# Altium integrated library AUVic_Integrated_Library_Transistors.IntLib: 26 symbols (part 1 of 2)
Pins are listed as number, name and electrical type; pins without a type are passive.

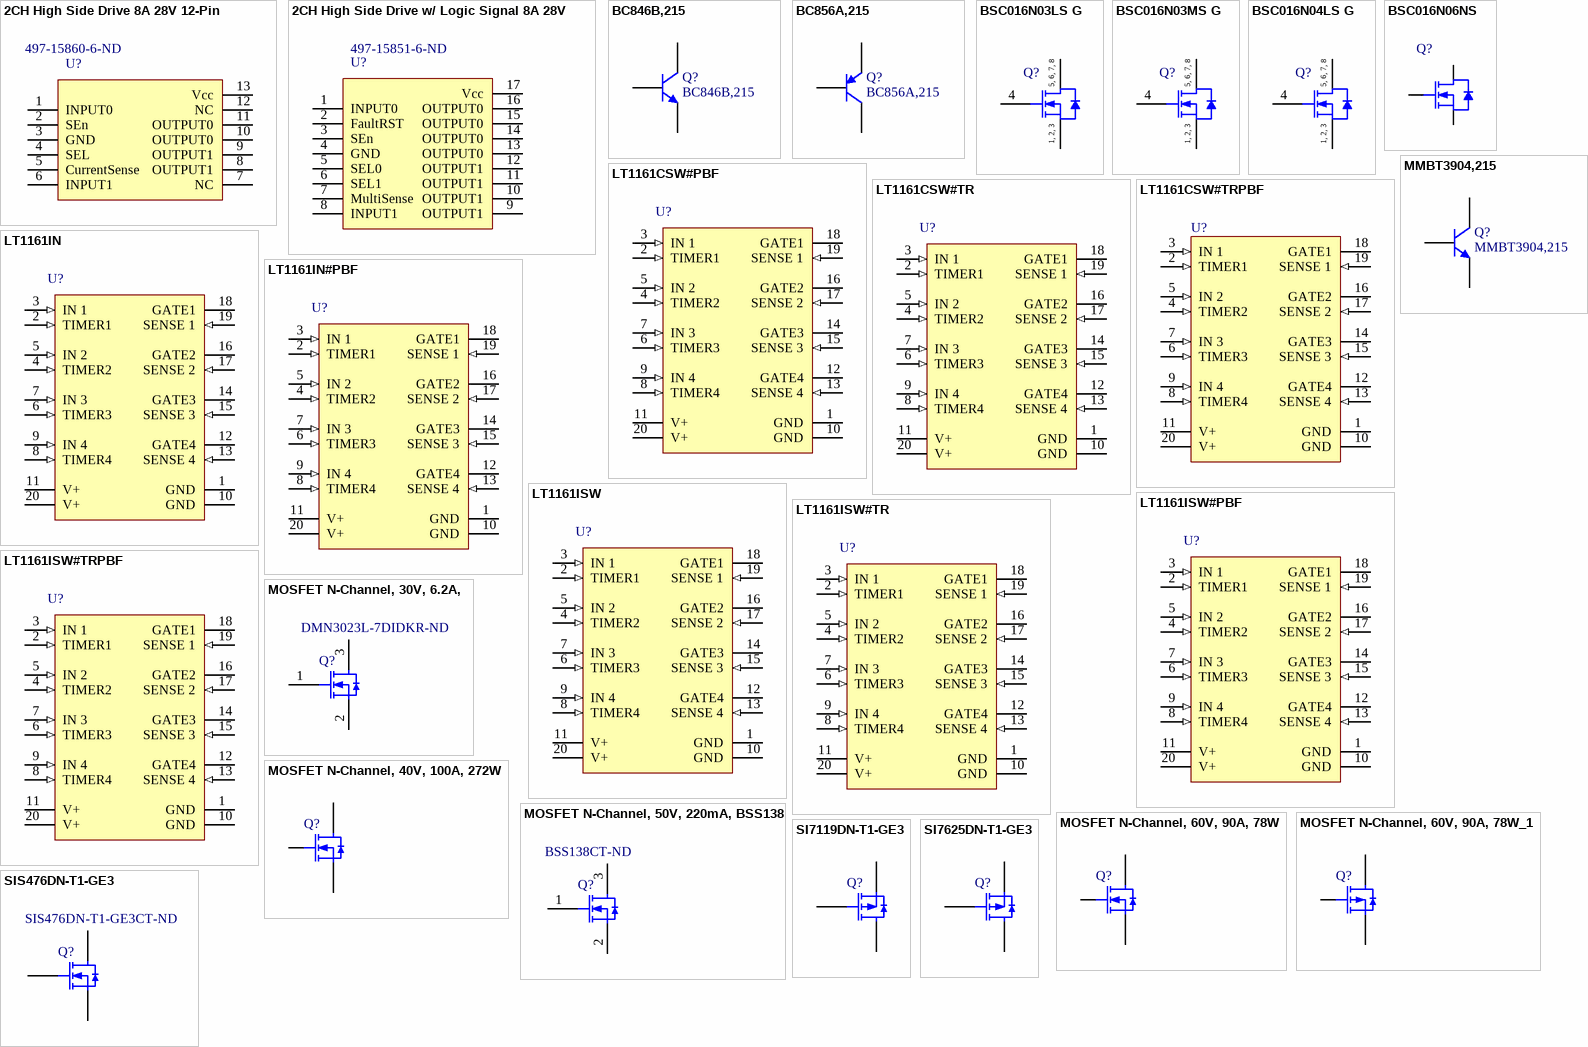
[diagram p0: symbols 2CH High Side Drive 8A 28V 12-Pin to SIS476DN-T1-GE3]

## 2CH High Side Drive 8A 28V 12-Pin
designator U?  Supplier Part Number 1: 497-15860-6-ND
2 Channel High Side Drive MOSFET controlable by logic signal 12-Pin; Supplier 1: Digi-Key; ComponentLink1Description: Digi-Key; ComponentLink1URL: https://www.digikey.ca/product-detail/en/stmicroelectronics/VND7140AJ12TR/497-15860-1-ND/5322005; Created By: Poorna Chander Kalidas; Date Created: 2018-06-13
footprint PowerSSO-12 (SOP, 12-Leads, Body 4.90x3.90mm, Pitch 0.80mm, Thermal Pad 3.50x2.80mm, IPC Low Density)
pins: 1 INPUT0, 2 SEn, 3 GND, 4 SEL, 5 CurrentSense, 6 INPUT1, 7 NC, 8 OUTPUT1, 9 OUTPUT1, 10 OUTPUT0, 11 OUTPUT0, 12 NC, 13 Vcc

## 2CH High Side Drive w/ Logic Signal 8A 28V
designator U?  Supplier Part Number 1: 497-15851-6-ND
2 Channel High Side Drive MOSFET controlable by logic signal; Supplier 1: Digi-Key
footprint SSOP50P600X170_HS-17N (SSOP, 16-Leads, Body 4.90x3.90mm, Pitch 0.50mm, Thermal Pad 3.50x2.80mm, IPC Medium Density)
pins: 1 INPUT0, 2 FaultRST, 3 SEn, 4 GND, 5 SEL0, 6 SEL1, 7 MultiSense, 8 INPUT1, 9 OUTPUT1, 10 OUTPUT1, 11 OUTPUT1, 12 OUTPUT1, 13 OUTPUT0, 14 OUTPUT0, 15 OUTPUT0, 16 OUTPUT0, 17 Vcc

## BC846B,215
designator Q?
NPN 65V 100mA 250mW; Published: 8-Jun-2000; LatestRevisionDate: 09-Sep-2016; DatasheetVersion: 1997; Publisher: Andy Bates; Supplier 1: Digi-Key; Supplier Part Number 1: 568-1632-1-ND
footprint SOT-23
pins: 1 B, 2 E, 3 C

## BC856A,215
designator Q?
PNP 65V 100mA 250mW; Published: 8-Jun-2000; LatestRevisionDate: 15-Jan-2003; Supplier 1: Digi-Key; Supplier Part Number 1: 568-4869-1-ND
footprint SOT-23
pins: 1 B, 2 E, 3 C

## BSC016N03LS G
designator Q?
N-Channel OptiMOS 3 Power-MOSFET, 30 V VDS, 100 A ID, -55 to 150 degC, PG-TDSON-8-1, Reel, Green; Manufacturer: Infineon; PartNumber: BSC016N03LS G; Green: TRUE; ID (max): 100 A; IDpuls (max): 400 A; Polarity: N; Ptot (max): 125 W; QG: 56 nC; RDS (on) (max): 1.6 mOhm; RDS (on) (max) (@4.5V): 2.3 mOhm; Rth: 1 K/W; RthJA (max): 50 K/W; VDS (max): 30 V; VGS(th) (max): 2.2 V; VGS(th) (min): 1 V; DatasheetVersion: Rev. 1.28; PackageReference: PG-TDSON-8-1; PackageDescription: 8-Pin Plastic (Green) Thin Dual Small Outline Non-Leaded Package, 5.15 x 5.9 mm Body, 1.27 mm Pitch; Supplier 1: Digi-Key; Supplier Part Number 1: BSC016N03LS GCT-ND; Halogen-free: TRUE; Packing: Reel; RthJC (max): 1 K/W; Mounting Technology: Surface Mount; ComponentLink1Description: Manufacturer URL; ComponentLink1URL: http://www.infineon.com/; ComponentLink2Description: Datasheet; ComponentLink2URL: http://www.infineon.com/dgdl/BSC016N03LS_rev1.28.pdf?folderId=db3a304412b407950112b408e8c90004&fileId=db3a304412b407950112b42761a13c1b; ComponentLink3Description: Package Specification; ComponentLink3URL: http://www.infineon.com/cms/packages/SMD_-_Surface_Mounted_Devices/P-PG-TDSON/P-PG-TDSON-08-01x_2x_3.html?__locale=en
footprint INF-PG-TDSON-8-1_V (TDSON, 8-Leads, Body 6.15x5.15mm, Pitch 1.27mm)
pins: 1 SOURCE, 2 SOURCE, 3 SOURCE, 4 GATE, 5 DRAIN, 6 DRAIN, 7 DRAIN, 8 DRAIN
text: 5, 6, 7, 8; 1, 2, 3

## BSC016N03MS G
designator Q?
N-Channel OptiMOS 3 M-Series Power-MOSFET, 30 V VDS, 100 A ID, -55 to 150 degC, PG-TDSON-8-1, Reel, Green; Manufacturer: Infineon; PartNumber: BSC016N03MS G; Green: TRUE; ID (max): 100 A; IDpuls (max): 400 A; Polarity: N; Ptot (max): 125 W; QG: 63 nC; RDS (on) (max): 1.6 mOhm; RDS (on) (max) (@4.5V): 2 mOhm; Rth: 1 K/W; RthJA (max): 50 K/W; VDS (max): 30 V; VGS(th) (max): 2 V; VGS(th) (min): 1 V; DatasheetVersion: Rev. 1.17; PackageReference: PG-TDSON-8-1; PackageDescription: 8-Pin Plastic (Green) Thin Dual Small Outline Non-Leaded Package, 5.15 x 5.9 mm Body, 1.27 mm Pitch; Supplier 1: Digi-Key; Supplier Part Number 1: BSC016N03MSGINCT-ND; Halogen-free: TRUE; Packing: Reel; RthJC (max): 1 K/W; Mounting Technology: Surface Mount; ComponentLink1Description: Manufacturer URL; ComponentLink1URL: http://www.infineon.com/; ComponentLink2Description: Datasheet; ComponentLink2URL: http://www.infineon.com/dgdl/BSC016N03MSG_rev1.17.pdf?folderId=db3a304313d846880113d91d60c500c4&fileId=db3a304313d846880113de4a19bb0334; ComponentLink3Description: Package Specification; ComponentLink3URL: http://www.infineon.com/cms/packages/SMD_-_Surface_Mounted_Devices/P-PG-TDSON/P-PG-TDSON-08-01x_2x_3.html?__locale=en
footprint INF-PG-TDSON-8-1_V (TDSON, 8-Leads, Body 6.15x5.15mm, Pitch 1.27mm)
pins: 1 SOURCE, 2 SOURCE, 3 SOURCE, 4 GATE, 5 DRAIN, 6 DRAIN, 7 DRAIN, 8 DRAIN
text: 5, 6, 7, 8; 1, 2, 3

## BSC016N04LS G
designator Q?
N-Channel OptiMOS 3 Power-Transistor, 40 V VDS, 100 A ID, -55 to 150 degC, PG-TDSON-8-1, Reel, Green; Manufacturer: Infineon; PartNumber: BSC016N04LS G; Green: TRUE; ID (max): 100 A; IDpuls (max): 400 A; Polarity: N; Ptot (max): 139 W; QG: 113 nC; RDS (on) (max): 1.6 mOhm; RDS (on) (max) (@4.5V): 2.3 mOhm; Rth: 0.9 K/W; RthJA (max): 50 K/W; VDS (max): 40 V; VGS(th) (max): 2 V; VGS(th) (min): 1.2 V; DatasheetVersion: Rev. 2.0; PackageReference: PG-TDSON-8-1; PackageDescription: 8-Pin Plastic (Green) Thin Dual Small Outline Non-Leaded Package, 5.15 x 5.9 mm Body, 1.27 mm Pitch; Supplier 1: Digi-Key; Supplier Part Number 1: BSC016N04LS GCT-ND; Halogen-free: TRUE; Packing: Reel; RthJC (max): 0.9 K/W; Mounting Technology: Surface Mount; ComponentLink1Description: Manufacturer URL; ComponentLink1URL: http://www.infineon.com/; ComponentLink2Description: Datasheet; ComponentLink2URL: http://www.infineon.com/dgdl/BSC016N04LSG_rev2.pdf?folderId=db3a304313b8b5a60113cee8763b02d7&fileId=db3a304318a6cd680118efe284830226; ComponentLink3Description: Package Specification; ComponentLink3URL: http://www.infineon.com/cms/packages/SMD_-_Surface_Mounted_Devices/P-PG-TDSON/P-PG-TDSON-08-01x_2x_3.html?__locale=en
footprint INF-PG-TDSON-8-1_V (TDSON, 8-Leads, Body 6.15x5.15mm, Pitch 1.27mm)
pins: 1 SOURCE, 2 SOURCE, 3 SOURCE, 4 GATE, 5 DRAIN, 6 DRAIN, 7 DRAIN, 8 DRAIN
text: 5, 6, 7, 8; 1, 2, 3

## BSC016N06NS
designator Q?  (value not drawn)
N-Channel, 60V, 100A, 139W; Manufacturer: Infineon Technologies; Created By: Ashwin Sira; Publisher: AUVic; Supplier 1: Digi-Key; Supplier Part Number 1: BSC016N06NSCT-ND
footprint INF-PG-TDSON-8-1_V (TDSON, 8-Leads, Body 6.15x5.15mm, Pitch 1.27mm)
pins: 1 SOURCE, 2 SOURCE, 3 SOURCE, 4 GATE, 5 DRAIN, 6 DRAIN, 7 DRAIN, 8 DRAIN

## LT1161CSW#PBF
designator U?
Quad Protected High-Side MOSFET Driver, 8 to 48 V Vin, 20-pin SOIC (SW-20), 0 to 70 degC, Pb-Free; Manufacturer: Linear Technology; PartNumber: LT1161CSW#PBF; DatasheetVersion: Rev. A; PackageVersion: Jun-10; PackageReference: SW-20; PackageDescription: 20-Pin Plastic Small Outline, Body 12.80 x 7.49 mm, Pitch 1.27 mm; Supplier 1: Digi-Key; Supplier Part Number 1: LT1161CSW#PBF-ND; Supplier 2: Farnell; Supplier Part Number 2: 1273476; Supplier 3: Newark; Supplier Part Number 3: 57M2265; RoHS: TRUE; Mounting Technology: Surface Mount; ComponentLink1Description: Manufacturer URL; ComponentLink1URL: http://www.linear.com/; ComponentLink2Description: Datasheet; ComponentLink2URL: http://cds.linear.com/docs/en/datasheet/1161fa.pdf; ComponentLink3Description: Package Specification; ComponentLink3URL: http://cds.linear.com/docs/en/packaging/SO_20_05-08-1620.pdf
footprint LT-SW-20_N (SOIC, 20-Leads, Body 12.8x7.49mm, Pitch 1.27mm, IPC Medium Density)
footprint LT-SW-20_L (SOIC, 20-Leads, Body 12.8x7.49mm, Pitch 1.27mm, IPC High Density)
footprint LT-SW-20_M (SOIC, 20-Leads, Body 12.8x7.49mm, Pitch 1.27mm, IPC Low Density)
pins: 1 GND (power) "The two ground pins are internally connected and must also be externally connected.", 2 TIMER1 (in) "A timing capacitor CT from each timer pin to ground sets the restart time following overcurrent detection. CT is rapidly discharged to less than 1V and then recharged by a 14uA nominal current source back to the timer (See Datasheet)", 3 IN 1 (in) "The input pins are active high and each pin activates a separate internal charge pump when switched ON. The input threshold is TTL/CMOS compatible but may be taken as high as 15V with or without the supply powered. Each (See Datasheet)", 4 TIMER2 (in) "A timing capacitor CT from each timer pin to ground sets the restart time following overcurrent detection. CT is rapidly discharged to less than 1V and then recharged by a 14uA nominal current source back to the timer (See Datasheet)", 5 IN 2 (in) "The input pins are active high and each pin activates a separate internal charge pump when switched ON. The input threshold is TTL/CMOS compatible but may be taken as high as 15V with or without the supply powered. Each (See Datasheet)", 6 TIMER3 (in) "A timing capacitor CT from each timer pin to ground sets the restart time following overcurrent detection. CT is rapidly discharged to less than 1V and then recharged by a 14uA nominal current source back to the timer (See Datasheet)", 7 IN 3 (in) "The input pins are active high and each pin activates a separate internal charge pump when switched ON. The input threshold is TTL/CMOS compatible but may be taken as high as 15V with or without the supply powered. Each (See Datasheet)", 8 TIMER4 (in) "A timing capacitor CT from each timer pin to ground sets the restart time following overcurrent detection. CT is rapidly discharged to less than 1V and then recharged by a 14uA nominal current source back to the timer (See Datasheet)", 9 IN 4 (in) "The input pins are active high and each pin activates a separate internal charge pump when switched ON. The input threshold is TTL/CMOS compatible but may be taken as high as 15V with or without the supply powered. Each (See Datasheet)", 10 GND (power) "The two ground pins are internally connected and must also be externally connected.", 11 V+ (power) "The two supply pins are internally connected and must also be externally connected. In addition to providing the operating current for the LT1161, the supply pins also serve as the Kelvin connection for the current sense (See Datasheet)", 12 GATE4 (hiz) "The gate pins drive the power MOSFET gates. When an input is ON, the corresponding gate pin is pumped approximately 12V above the supply. These pins have a relatively high impedance when above the rail (theequivalent of a (See Datasheet)", 13 SENSE 4 (in) "Each sense pin connects to the input of asupply-referenced comparator with a 65mV nominal offset. When a sense pin is taken more than 65mV below supply, the MOSFET gate for that channel is driven low and the corresponding (See Datasheet)", 14 GATE3 (hiz) "The gate pins drive the power MOSFET gates. When an input is ON, the corresponding gate pin is pumped approximately 12V above the supply. These pins have a relatively high impedance when above the rail (theequivalent of a (See Datasheet)", 15 SENSE 3 (in) "Each sense pin connects to the input of asupply-referenced comparator with a 65mV nominal offset. When a sense pin is taken more than 65mV below supply, the MOSFET gate for that channel is driven low and the corresponding (See Datasheet)", 16 GATE2 (hiz) "The gate pins drive the power MOSFET gates. When an input is ON, the corresponding gate pin is pumped approximately 12V above the supply. These pins have a relatively high impedance when above the rail (theequivalent of a (See Datasheet)", 17 SENSE 2 (in) "Each sense pin connects to the input of asupply-referenced comparator with a 65mV nominal offset. When a sense pin is taken more than 65mV below supply, the MOSFET gate for that channel is driven low and the corresponding (See Datasheet)", 18 GATE1 (hiz) "The gate pins drive the power MOSFET gates. When an input is ON, the corresponding gate pin is pumped approximately 12V above the supply. These pins have a relatively high impedance when above the rail (theequivalent of a (See Datasheet)", 19 SENSE 1 (in) "Each sense pin connects to the input of asupply-referenced comparator with a 65mV nominal offset. When a sense pin is taken more than 65mV below supply, the MOSFET gate for that channel is driven low and the corresponding (See Datasheet)", 20 V+ (power) "The two supply pins are internally connected and must also be externally connected. In addition to providing the operating current for the LT1161, the supply pins also serve as the Kelvin connection for the current sense (See Datasheet)"

## LT1161CSW#TR
designator U?
Quad Protected High-Side MOSFET Driver, 8 to 48 V Vin, 20-pin SOIC (SW-20), 0 to 70 degC, Tape and Reel; Manufacturer: Linear Technology; PartNumber: LT1161CSW#TR; DatasheetVersion: Rev. A; PackageVersion: Jun-10; PackageReference: SW-20; PackageDescription: 20-Pin Plastic Small Outline, Body 12.80 x 7.49 mm, Pitch 1.27 mm; Supplier 1: Digi-Key; Supplier Part Number 1: LT1161CSW#TR-ND; Packing: Tape and Reel; RoHS: FALSE; Mounting Technology: Surface Mount; ComponentLink1Description: Manufacturer URL; ComponentLink1URL: http://www.linear.com/; ComponentLink2Description: Datasheet; ComponentLink2URL: http://cds.linear.com/docs/en/datasheet/1161fa.pdf; ComponentLink3Description: Package Specification; ComponentLink3URL: http://cds.linear.com/docs/en/packaging/SO_20_05-08-1620.pdf
footprint LT-SW-20_N (SOIC, 20-Leads, Body 12.8x7.49mm, Pitch 1.27mm, IPC Medium Density)
footprint LT-SW-20_L (SOIC, 20-Leads, Body 12.8x7.49mm, Pitch 1.27mm, IPC High Density)
footprint LT-SW-20_M (SOIC, 20-Leads, Body 12.8x7.49mm, Pitch 1.27mm, IPC Low Density)
pins: 1 GND (power) "The two ground pins are internally connected and must also be externally connected.", 2 TIMER1 (in) "A timing capacitor CT from each timer pin to ground sets the restart time following overcurrent detection. CT is rapidly discharged to less than 1V and then recharged by a 14uA nominal current source back to the timer (See Datasheet)", 3 IN 1 (in) "The input pins are active high and each pin activates a separate internal charge pump when switched ON. The input threshold is TTL/CMOS compatible but may be taken as high as 15V with or without the supply powered. Each (See Datasheet)", 4 TIMER2 (in) "A timing capacitor CT from each timer pin to ground sets the restart time following overcurrent detection. CT is rapidly discharged to less than 1V and then recharged by a 14uA nominal current source back to the timer (See Datasheet)", 5 IN 2 (in) "The input pins are active high and each pin activates a separate internal charge pump when switched ON. The input threshold is TTL/CMOS compatible but may be taken as high as 15V with or without the supply powered. Each (See Datasheet)", 6 TIMER3 (in) "A timing capacitor CT from each timer pin to ground sets the restart time following overcurrent detection. CT is rapidly discharged to less than 1V and then recharged by a 14uA nominal current source back to the timer (See Datasheet)", 7 IN 3 (in) "The input pins are active high and each pin activates a separate internal charge pump when switched ON. The input threshold is TTL/CMOS compatible but may be taken as high as 15V with or without the supply powered. Each (See Datasheet)", 8 TIMER4 (in) "A timing capacitor CT from each timer pin to ground sets the restart time following overcurrent detection. CT is rapidly discharged to less than 1V and then recharged by a 14uA nominal current source back to the timer (See Datasheet)", 9 IN 4 (in) "The input pins are active high and each pin activates a separate internal charge pump when switched ON. The input threshold is TTL/CMOS compatible but may be taken as high as 15V with or without the supply powered. Each (See Datasheet)", 10 GND (power) "The two ground pins are internally connected and must also be externally connected.", 11 V+ (power) "The two supply pins are internally connected and must also be externally connected. In addition to providing the operating current for the LT1161, the supply pins also serve as the Kelvin connection for the current sense (See Datasheet)", 12 GATE4 (hiz) "The gate pins drive the power MOSFET gates. When an input is ON, the corresponding gate pin is pumped approximately 12V above the supply. These pins have a relatively high impedance when above the rail (theequivalent of a (See Datasheet)", 13 SENSE 4 (in) "Each sense pin connects to the input of asupply-referenced comparator with a 65mV nominal offset. When a sense pin is taken more than 65mV below supply, the MOSFET gate for that channel is driven low and the corresponding (See Datasheet)", 14 GATE3 (hiz) "The gate pins drive the power MOSFET gates. When an input is ON, the corresponding gate pin is pumped approximately 12V above the supply. These pins have a relatively high impedance when above the rail (theequivalent of a (See Datasheet)", 15 SENSE 3 (in) "Each sense pin connects to the input of asupply-referenced comparator with a 65mV nominal offset. When a sense pin is taken more than 65mV below supply, the MOSFET gate for that channel is driven low and the corresponding (See Datasheet)", 16 GATE2 (hiz) "The gate pins drive the power MOSFET gates. When an input is ON, the corresponding gate pin is pumped approximately 12V above the supply. These pins have a relatively high impedance when above the rail (theequivalent of a (See Datasheet)", 17 SENSE 2 (in) "Each sense pin connects to the input of asupply-referenced comparator with a 65mV nominal offset. When a sense pin is taken more than 65mV below supply, the MOSFET gate for that channel is driven low and the corresponding (See Datasheet)", 18 GATE1 (hiz) "The gate pins drive the power MOSFET gates. When an input is ON, the corresponding gate pin is pumped approximately 12V above the supply. These pins have a relatively high impedance when above the rail (theequivalent of a (See Datasheet)", 19 SENSE 1 (in) "Each sense pin connects to the input of asupply-referenced comparator with a 65mV nominal offset. When a sense pin is taken more than 65mV below supply, the MOSFET gate for that channel is driven low and the corresponding (See Datasheet)", 20 V+ (power) "The two supply pins are internally connected and must also be externally connected. In addition to providing the operating current for the LT1161, the supply pins also serve as the Kelvin connection for the current sense (See Datasheet)"

## LT1161CSW#TRPBF
designator U?
Quad Protected High-Side MOSFET Driver, 8 to 48 V Vin, 20-pin SOIC (SW-20), 0 to 70 degC, Pb-Free, Tape and Reel; Manufacturer: Linear Technology; PartNumber: LT1161CSW#TRPBF; DatasheetVersion: Rev. A; PackageVersion: Jun-10; PackageReference: SW-20; PackageDescription: 20-Pin Plastic Small Outline, Body 12.80 x 7.49 mm, Pitch 1.27 mm; Supplier 1: Digi-Key; Supplier Part Number 1: LT1161CSW#TRPBFTR-ND; Supplier 2: Digi-Key; Supplier Part Number 2: LT1161CSW#TRPBFCT-ND; Supplier 3: Digi-Key; Supplier Part Number 3: LT1161CSW#TRPBFDKR-ND; Packing: Tape and Reel; RoHS: TRUE; Mounting Technology: Surface Mount; ComponentLink1Description: Manufacturer URL; ComponentLink1URL: http://www.linear.com/; ComponentLink2Description: Datasheet; ComponentLink2URL: http://cds.linear.com/docs/en/datasheet/1161fa.pdf; ComponentLink3Description: Package Specification; ComponentLink3URL: http://cds.linear.com/docs/en/packaging/SO_20_05-08-1620.pdf
footprint LT-SW-20_N (SOIC, 20-Leads, Body 12.8x7.49mm, Pitch 1.27mm, IPC Medium Density)
footprint LT-SW-20_L (SOIC, 20-Leads, Body 12.8x7.49mm, Pitch 1.27mm, IPC High Density)
footprint LT-SW-20_M (SOIC, 20-Leads, Body 12.8x7.49mm, Pitch 1.27mm, IPC Low Density)
pins: 1 GND (power) "The two ground pins are internally connected and must also be externally connected.", 2 TIMER1 (in) "A timing capacitor CT from each timer pin to ground sets the restart time following overcurrent detection. CT is rapidly discharged to less than 1V and then recharged by a 14uA nominal current source back to the timer (See Datasheet)", 3 IN 1 (in) "The input pins are active high and each pin activates a separate internal charge pump when switched ON. The input threshold is TTL/CMOS compatible but may be taken as high as 15V with or without the supply powered. Each (See Datasheet)", 4 TIMER2 (in) "A timing capacitor CT from each timer pin to ground sets the restart time following overcurrent detection. CT is rapidly discharged to less than 1V and then recharged by a 14uA nominal current source back to the timer (See Datasheet)", 5 IN 2 (in) "The input pins are active high and each pin activates a separate internal charge pump when switched ON. The input threshold is TTL/CMOS compatible but may be taken as high as 15V with or without the supply powered. Each (See Datasheet)", 6 TIMER3 (in) "A timing capacitor CT from each timer pin to ground sets the restart time following overcurrent detection. CT is rapidly discharged to less than 1V and then recharged by a 14uA nominal current source back to the timer (See Datasheet)", 7 IN 3 (in) "The input pins are active high and each pin activates a separate internal charge pump when switched ON. The input threshold is TTL/CMOS compatible but may be taken as high as 15V with or without the supply powered. Each (See Datasheet)", 8 TIMER4 (in) "A timing capacitor CT from each timer pin to ground sets the restart time following overcurrent detection. CT is rapidly discharged to less than 1V and then recharged by a 14uA nominal current source back to the timer (See Datasheet)", 9 IN 4 (in) "The input pins are active high and each pin activates a separate internal charge pump when switched ON. The input threshold is TTL/CMOS compatible but may be taken as high as 15V with or without the supply powered. Each (See Datasheet)", 10 GND (power) "The two ground pins are internally connected and must also be externally connected.", 11 V+ (power) "The two supply pins are internally connected and must also be externally connected. In addition to providing the operating current for the LT1161, the supply pins also serve as the Kelvin connection for the current sense (See Datasheet)", 12 GATE4 (hiz) "The gate pins drive the power MOSFET gates. When an input is ON, the corresponding gate pin is pumped approximately 12V above the supply. These pins have a relatively high impedance when above the rail (theequivalent of a (See Datasheet)", 13 SENSE 4 (in) "Each sense pin connects to the input of asupply-referenced comparator with a 65mV nominal offset. When a sense pin is taken more than 65mV below supply, the MOSFET gate for that channel is driven low and the corresponding (See Datasheet)", 14 GATE3 (hiz) "The gate pins drive the power MOSFET gates. When an input is ON, the corresponding gate pin is pumped approximately 12V above the supply. These pins have a relatively high impedance when above the rail (theequivalent of a (See Datasheet)", 15 SENSE 3 (in) "Each sense pin connects to the input of asupply-referenced comparator with a 65mV nominal offset. When a sense pin is taken more than 65mV below supply, the MOSFET gate for that channel is driven low and the corresponding (See Datasheet)", 16 GATE2 (hiz) "The gate pins drive the power MOSFET gates. When an input is ON, the corresponding gate pin is pumped approximately 12V above the supply. These pins have a relatively high impedance when above the rail (theequivalent of a (See Datasheet)", 17 SENSE 2 (in) "Each sense pin connects to the input of asupply-referenced comparator with a 65mV nominal offset. When a sense pin is taken more than 65mV below supply, the MOSFET gate for that channel is driven low and the corresponding (See Datasheet)", 18 GATE1 (hiz) "The gate pins drive the power MOSFET gates. When an input is ON, the corresponding gate pin is pumped approximately 12V above the supply. These pins have a relatively high impedance when above the rail (theequivalent of a (See Datasheet)", 19 SENSE 1 (in) "Each sense pin connects to the input of asupply-referenced comparator with a 65mV nominal offset. When a sense pin is taken more than 65mV below supply, the MOSFET gate for that channel is driven low and the corresponding (See Datasheet)", 20 V+ (power) "The two supply pins are internally connected and must also be externally connected. In addition to providing the operating current for the LT1161, the supply pins also serve as the Kelvin connection for the current sense (See Datasheet)"
1 alternate drawing of the same symbol

## LT1161IN
designator U?
Quad Protected High-Side MOSFET Driver, 8 to 48 V Vin, 20-pin DIP (N-20), -40 to 85 degC; Manufacturer: Linear Technology; PartNumber: LT1161IN; DatasheetVersion: Rev. A; PackageVersion: Rev. I, 07/2011; PackageReference: N-20; PackageDescription: 20-Pin PDIP, Body 26.924 x 6.477 mm, Pitch 2.54 mm; Supplier 1: Digi-Key; Supplier Part Number 1: LT1161IN-ND; Supplier 2: Newark; Supplier Part Number 2: 57M2268; RoHS: FALSE; Mounting Technology: Through Hole; ComponentLink1Description: Manufacturer URL; ComponentLink1URL: http://www.linear.com/; ComponentLink2Description: Datasheet; ComponentLink2URL: http://cds.linear.com/docs/en/datasheet/1161fa.pdf; ComponentLink3Description: Package Specification; ComponentLink3URL: http://cds.linear.com/docs/en/packaging/05081510_I_N20.pdf
footprint LT-N-20 (DIP, 20-Leads, Body 26.924x6.477mm, Pitch 2.54mm)
pins: 1 GND (power) "The two ground pins are internally connected and must also be externally connected.", 2 TIMER1 (in) "A timing capacitor CT from each timer pin to ground sets the restart time following overcurrent detection. CT is rapidly discharged to less than 1V and then recharged by a 14uA nominal current source back to the timer (See Datasheet)", 3 IN 1 (in) "The input pins are active high and each pin activates a separate internal charge pump when switched ON. The input threshold is TTL/CMOS compatible but may be taken as high as 15V with or without the supply powered. Each (See Datasheet)", 4 TIMER2 (in) "A timing capacitor CT from each timer pin to ground sets the restart time following overcurrent detection. CT is rapidly discharged to less than 1V and then recharged by a 14uA nominal current source back to the timer (See Datasheet)", 5 IN 2 (in) "The input pins are active high and each pin activates a separate internal charge pump when switched ON. The input threshold is TTL/CMOS compatible but may be taken as high as 15V with or without the supply powered. Each (See Datasheet)", 6 TIMER3 (in) "A timing capacitor CT from each timer pin to ground sets the restart time following overcurrent detection. CT is rapidly discharged to less than 1V and then recharged by a 14uA nominal current source back to the timer (See Datasheet)", 7 IN 3 (in) "The input pins are active high and each pin activates a separate internal charge pump when switched ON. The input threshold is TTL/CMOS compatible but may be taken as high as 15V with or without the supply powered. Each (See Datasheet)", 8 TIMER4 (in) "A timing capacitor CT from each timer pin to ground sets the restart time following overcurrent detection. CT is rapidly discharged to less than 1V and then recharged by a 14uA nominal current source back to the timer (See Datasheet)", 9 IN 4 (in) "The input pins are active high and each pin activates a separate internal charge pump when switched ON. The input threshold is TTL/CMOS compatible but may be taken as high as 15V with or without the supply powered. Each (See Datasheet)", 10 GND (power) "The two ground pins are internally connected and must also be externally connected.", 11 V+ (power) "The two supply pins are internally connected and must also be externally connected. In addition to providing the operating current for the LT1161, the supply pins also serve as the Kelvin connection for the current sense (See Datasheet)", 12 GATE4 (hiz) "The gate pins drive the power MOSFET gates. When an input is ON, the corresponding gate pin is pumped approximately 12V above the supply. These pins have a relatively high impedance when above the rail (theequivalent of a (See Datasheet)", 13 SENSE 4 (in) "Each sense pin connects to the input of asupply-referenced comparator with a 65mV nominal offset. When a sense pin is taken more than 65mV below supply, the MOSFET gate for that channel is driven low and the corresponding (See Datasheet)", 14 GATE3 (hiz) "The gate pins drive the power MOSFET gates. When an input is ON, the corresponding gate pin is pumped approximately 12V above the supply. These pins have a relatively high impedance when above the rail (theequivalent of a (See Datasheet)", 15 SENSE 3 (in) "Each sense pin connects to the input of asupply-referenced comparator with a 65mV nominal offset. When a sense pin is taken more than 65mV below supply, the MOSFET gate for that channel is driven low and the corresponding (See Datasheet)", 16 GATE2 (hiz) "The gate pins drive the power MOSFET gates. When an input is ON, the corresponding gate pin is pumped approximately 12V above the supply. These pins have a relatively high impedance when above the rail (theequivalent of a (See Datasheet)", 17 SENSE 2 (in) "Each sense pin connects to the input of asupply-referenced comparator with a 65mV nominal offset. When a sense pin is taken more than 65mV below supply, the MOSFET gate for that channel is driven low and the corresponding (See Datasheet)", 18 GATE1 (hiz) "The gate pins drive the power MOSFET gates. When an input is ON, the corresponding gate pin is pumped approximately 12V above the supply. These pins have a relatively high impedance when above the rail (theequivalent of a (See Datasheet)", 19 SENSE 1 (in) "Each sense pin connects to the input of asupply-referenced comparator with a 65mV nominal offset. When a sense pin is taken more than 65mV below supply, the MOSFET gate for that channel is driven low and the corresponding (See Datasheet)", 20 V+ (power) "The two supply pins are internally connected and must also be externally connected. In addition to providing the operating current for the LT1161, the supply pins also serve as the Kelvin connection for the current sense (See Datasheet)"

## LT1161IN#PBF
designator U?
Quad Protected High-Side MOSFET Driver, 8 to 48 V Vin, 20-pin DIP (N-20), -40 to 85 degC, Pb-Free; Manufacturer: Linear Technology; PartNumber: LT1161IN#PBF; DatasheetVersion: Rev. A; PackageVersion: Rev. I, 07/2011; PackageReference: N-20; PackageDescription: 20-Pin PDIP, Body 26.924 x 6.477 mm, Pitch 2.54 mm; Supplier 1: Digi-Key; Supplier Part Number 1: LT1161IN#PBF-ND; Supplier 2: Newark; Supplier Part Number 2: 57M2269; RoHS: TRUE; Mounting Technology: Through Hole; ComponentLink1Description: Manufacturer URL; ComponentLink1URL: http://www.linear.com/; ComponentLink2Description: Datasheet; ComponentLink2URL: http://cds.linear.com/docs/en/datasheet/1161fa.pdf; ComponentLink3Description: Package Specification; ComponentLink3URL: http://cds.linear.com/docs/en/packaging/05081510_I_N20.pdf
footprint LT-N-20 (DIP, 20-Leads, Body 26.924x6.477mm, Pitch 2.54mm)
pins: 1 GND (power) "The two ground pins are internally connected and must also be externally connected.", 2 TIMER1 (in) "A timing capacitor CT from each timer pin to ground sets the restart time following overcurrent detection. CT is rapidly discharged to less than 1V and then recharged by a 14uA nominal current source back to the timer (See Datasheet)", 3 IN 1 (in) "The input pins are active high and each pin activates a separate internal charge pump when switched ON. The input threshold is TTL/CMOS compatible but may be taken as high as 15V with or without the supply powered. Each (See Datasheet)", 4 TIMER2 (in) "A timing capacitor CT from each timer pin to ground sets the restart time following overcurrent detection. CT is rapidly discharged to less than 1V and then recharged by a 14uA nominal current source back to the timer (See Datasheet)", 5 IN 2 (in) "The input pins are active high and each pin activates a separate internal charge pump when switched ON. The input threshold is TTL/CMOS compatible but may be taken as high as 15V with or without the supply powered. Each (See Datasheet)", 6 TIMER3 (in) "A timing capacitor CT from each timer pin to ground sets the restart time following overcurrent detection. CT is rapidly discharged to less than 1V and then recharged by a 14uA nominal current source back to the timer (See Datasheet)", 7 IN 3 (in) "The input pins are active high and each pin activates a separate internal charge pump when switched ON. The input threshold is TTL/CMOS compatible but may be taken as high as 15V with or without the supply powered. Each (See Datasheet)", 8 TIMER4 (in) "A timing capacitor CT from each timer pin to ground sets the restart time following overcurrent detection. CT is rapidly discharged to less than 1V and then recharged by a 14uA nominal current source back to the timer (See Datasheet)", 9 IN 4 (in) "The input pins are active high and each pin activates a separate internal charge pump when switched ON. The input threshold is TTL/CMOS compatible but may be taken as high as 15V with or without the supply powered. Each (See Datasheet)", 10 GND (power) "The two ground pins are internally connected and must also be externally connected.", 11 V+ (power) "The two supply pins are internally connected and must also be externally connected. In addition to providing the operating current for the LT1161, the supply pins also serve as the Kelvin connection for the current sense (See Datasheet)", 12 GATE4 (hiz) "The gate pins drive the power MOSFET gates. When an input is ON, the corresponding gate pin is pumped approximately 12V above the supply. These pins have a relatively high impedance when above the rail (theequivalent of a (See Datasheet)", 13 SENSE 4 (in) "Each sense pin connects to the input of asupply-referenced comparator with a 65mV nominal offset. When a sense pin is taken more than 65mV below supply, the MOSFET gate for that channel is driven low and the corresponding (See Datasheet)", 14 GATE3 (hiz) "The gate pins drive the power MOSFET gates. When an input is ON, the corresponding gate pin is pumped approximately 12V above the supply. These pins have a relatively high impedance when above the rail (theequivalent of a (See Datasheet)", 15 SENSE 3 (in) "Each sense pin connects to the input of asupply-referenced comparator with a 65mV nominal offset. When a sense pin is taken more than 65mV below supply, the MOSFET gate for that channel is driven low and the corresponding (See Datasheet)", 16 GATE2 (hiz) "The gate pins drive the power MOSFET gates. When an input is ON, the corresponding gate pin is pumped approximately 12V above the supply. These pins have a relatively high impedance when above the rail (theequivalent of a (See Datasheet)", 17 SENSE 2 (in) "Each sense pin connects to the input of asupply-referenced comparator with a 65mV nominal offset. When a sense pin is taken more than 65mV below supply, the MOSFET gate for that channel is driven low and the corresponding (See Datasheet)", 18 GATE1 (hiz) "The gate pins drive the power MOSFET gates. When an input is ON, the corresponding gate pin is pumped approximately 12V above the supply. These pins have a relatively high impedance when above the rail (theequivalent of a (See Datasheet)", 19 SENSE 1 (in) "Each sense pin connects to the input of asupply-referenced comparator with a 65mV nominal offset. When a sense pin is taken more than 65mV below supply, the MOSFET gate for that channel is driven low and the corresponding (See Datasheet)", 20 V+ (power) "The two supply pins are internally connected and must also be externally connected. In addition to providing the operating current for the LT1161, the supply pins also serve as the Kelvin connection for the current sense (See Datasheet)"

## LT1161ISW
designator U?
Quad Protected High-Side MOSFET Driver, 8 to 48 V Vin, 20-pin SOIC (SW-20), -40 to 85 degC; Manufacturer: Linear Technology; PartNumber: LT1161ISW; DatasheetVersion: Rev. A; PackageVersion: Jun-10; PackageReference: SW-20; PackageDescription: 20-Pin Plastic Small Outline, Body 12.80 x 7.49 mm, Pitch 1.27 mm; Supplier 1: Digi-Key; Supplier Part Number 1: LT1161ISW-ND; RoHS: FALSE; Mounting Technology: Surface Mount; ComponentLink1Description: Manufacturer URL; ComponentLink1URL: http://www.linear.com/; ComponentLink2Description: Datasheet; ComponentLink2URL: http://cds.linear.com/docs/en/datasheet/1161fa.pdf; ComponentLink3Description: Package Specification; ComponentLink3URL: http://cds.linear.com/docs/en/packaging/SO_20_05-08-1620.pdf
footprint LT-SW-20_N (SOIC, 20-Leads, Body 12.8x7.49mm, Pitch 1.27mm, IPC Medium Density)
footprint LT-SW-20_L (SOIC, 20-Leads, Body 12.8x7.49mm, Pitch 1.27mm, IPC High Density)
footprint LT-SW-20_M (SOIC, 20-Leads, Body 12.8x7.49mm, Pitch 1.27mm, IPC Low Density)
pins: 1 GND (power) "The two ground pins are internally connected and must also be externally connected.", 2 TIMER1 (in) "A timing capacitor CT from each timer pin to ground sets the restart time following overcurrent detection. CT is rapidly discharged to less than 1V and then recharged by a 14uA nominal current source back to the timer (See Datasheet)", 3 IN 1 (in) "The input pins are active high and each pin activates a separate internal charge pump when switched ON. The input threshold is TTL/CMOS compatible but may be taken as high as 15V with or without the supply powered. Each (See Datasheet)", 4 TIMER2 (in) "A timing capacitor CT from each timer pin to ground sets the restart time following overcurrent detection. CT is rapidly discharged to less than 1V and then recharged by a 14uA nominal current source back to the timer (See Datasheet)", 5 IN 2 (in) "The input pins are active high and each pin activates a separate internal charge pump when switched ON. The input threshold is TTL/CMOS compatible but may be taken as high as 15V with or without the supply powered. Each (See Datasheet)", 6 TIMER3 (in) "A timing capacitor CT from each timer pin to ground sets the restart time following overcurrent detection. CT is rapidly discharged to less than 1V and then recharged by a 14uA nominal current source back to the timer (See Datasheet)", 7 IN 3 (in) "The input pins are active high and each pin activates a separate internal charge pump when switched ON. The input threshold is TTL/CMOS compatible but may be taken as high as 15V with or without the supply powered. Each (See Datasheet)", 8 TIMER4 (in) "A timing capacitor CT from each timer pin to ground sets the restart time following overcurrent detection. CT is rapidly discharged to less than 1V and then recharged by a 14uA nominal current source back to the timer (See Datasheet)", 9 IN 4 (in) "The input pins are active high and each pin activates a separate internal charge pump when switched ON. The input threshold is TTL/CMOS compatible but may be taken as high as 15V with or without the supply powered. Each (See Datasheet)", 10 GND (power) "The two ground pins are internally connected and must also be externally connected.", 11 V+ (power) "The two supply pins are internally connected and must also be externally connected. In addition to providing the operating current for the LT1161, the supply pins also serve as the Kelvin connection for the current sense (See Datasheet)", 12 GATE4 (hiz) "The gate pins drive the power MOSFET gates. When an input is ON, the corresponding gate pin is pumped approximately 12V above the supply. These pins have a relatively high impedance when above the rail (theequivalent of a (See Datasheet)", 13 SENSE 4 (in) "Each sense pin connects to the input of asupply-referenced comparator with a 65mV nominal offset. When a sense pin is taken more than 65mV below supply, the MOSFET gate for that channel is driven low and the corresponding (See Datasheet)", 14 GATE3 (hiz) "The gate pins drive the power MOSFET gates. When an input is ON, the corresponding gate pin is pumped approximately 12V above the supply. These pins have a relatively high impedance when above the rail (theequivalent of a (See Datasheet)", 15 SENSE 3 (in) "Each sense pin connects to the input of asupply-referenced comparator with a 65mV nominal offset. When a sense pin is taken more than 65mV below supply, the MOSFET gate for that channel is driven low and the corresponding (See Datasheet)", 16 GATE2 (hiz) "The gate pins drive the power MOSFET gates. When an input is ON, the corresponding gate pin is pumped approximately 12V above the supply. These pins have a relatively high impedance when above the rail (theequivalent of a (See Datasheet)", 17 SENSE 2 (in) "Each sense pin connects to the input of asupply-referenced comparator with a 65mV nominal offset. When a sense pin is taken more than 65mV below supply, the MOSFET gate for that channel is driven low and the corresponding (See Datasheet)", 18 GATE1 (hiz) "The gate pins drive the power MOSFET gates. When an input is ON, the corresponding gate pin is pumped approximately 12V above the supply. These pins have a relatively high impedance when above the rail (theequivalent of a (See Datasheet)", 19 SENSE 1 (in) "Each sense pin connects to the input of asupply-referenced comparator with a 65mV nominal offset. When a sense pin is taken more than 65mV below supply, the MOSFET gate for that channel is driven low and the corresponding (See Datasheet)", 20 V+ (power) "The two supply pins are internally connected and must also be externally connected. In addition to providing the operating current for the LT1161, the supply pins also serve as the Kelvin connection for the current sense (See Datasheet)"

## LT1161ISW#PBF
designator U?
Quad Protected High-Side MOSFET Driver, 8 to 48 V Vin, 20-pin SOIC (SW-20), -40 to 85 degC, Pb-Free; Manufacturer: Linear Technology; PartNumber: LT1161ISW#PBF; DatasheetVersion: Rev. A; PackageVersion: Jun-10; PackageReference: SW-20; PackageDescription: 20-Pin Plastic Small Outline, Body 12.80 x 7.49 mm, Pitch 1.27 mm; Supplier 1: Digi-Key; Supplier Part Number 1: LT1161ISW#PBF-ND; Supplier 2: Farnell; Supplier Part Number 2: 2115820; Supplier 3: Newark; Supplier Part Number 3: 57M2271; RoHS: TRUE; Mounting Technology: Surface Mount; ComponentLink1Description: Manufacturer URL; ComponentLink1URL: http://www.linear.com/; ComponentLink2Description: Datasheet; ComponentLink2URL: http://cds.linear.com/docs/en/datasheet/1161fa.pdf; ComponentLink3Description: Package Specification; ComponentLink3URL: http://cds.linear.com/docs/en/packaging/SO_20_05-08-1620.pdf
footprint LT-SW-20_N (SOIC, 20-Leads, Body 12.8x7.49mm, Pitch 1.27mm, IPC Medium Density)
footprint LT-SW-20_L (SOIC, 20-Leads, Body 12.8x7.49mm, Pitch 1.27mm, IPC High Density)
footprint LT-SW-20_M (SOIC, 20-Leads, Body 12.8x7.49mm, Pitch 1.27mm, IPC Low Density)
pins: 1 GND (power) "The two ground pins are internally connected and must also be externally connected.", 2 TIMER1 (in) "A timing capacitor CT from each timer pin to ground sets the restart time following overcurrent detection. CT is rapidly discharged to less than 1V and then recharged by a 14uA nominal current source back to the timer (See Datasheet)", 3 IN 1 (in) "The input pins are active high and each pin activates a separate internal charge pump when switched ON. The input threshold is TTL/CMOS compatible but may be taken as high as 15V with or without the supply powered. Each (See Datasheet)", 4 TIMER2 (in) "A timing capacitor CT from each timer pin to ground sets the restart time following overcurrent detection. CT is rapidly discharged to less than 1V and then recharged by a 14uA nominal current source back to the timer (See Datasheet)", 5 IN 2 (in) "The input pins are active high and each pin activates a separate internal charge pump when switched ON. The input threshold is TTL/CMOS compatible but may be taken as high as 15V with or without the supply powered. Each (See Datasheet)", 6 TIMER3 (in) "A timing capacitor CT from each timer pin to ground sets the restart time following overcurrent detection. CT is rapidly discharged to less than 1V and then recharged by a 14uA nominal current source back to the timer (See Datasheet)", 7 IN 3 (in) "The input pins are active high and each pin activates a separate internal charge pump when switched ON. The input threshold is TTL/CMOS compatible but may be taken as high as 15V with or without the supply powered. Each (See Datasheet)", 8 TIMER4 (in) "A timing capacitor CT from each timer pin to ground sets the restart time following overcurrent detection. CT is rapidly discharged to less than 1V and then recharged by a 14uA nominal current source back to the timer (See Datasheet)", 9 IN 4 (in) "The input pins are active high and each pin activates a separate internal charge pump when switched ON. The input threshold is TTL/CMOS compatible but may be taken as high as 15V with or without the supply powered. Each (See Datasheet)", 10 GND (power) "The two ground pins are internally connected and must also be externally connected.", 11 V+ (power) "The two supply pins are internally connected and must also be externally connected. In addition to providing the operating current for the LT1161, the supply pins also serve as the Kelvin connection for the current sense (See Datasheet)", 12 GATE4 (hiz) "The gate pins drive the power MOSFET gates. When an input is ON, the corresponding gate pin is pumped approximately 12V above the supply. These pins have a relatively high impedance when above the rail (theequivalent of a (See Datasheet)", 13 SENSE 4 (in) "Each sense pin connects to the input of asupply-referenced comparator with a 65mV nominal offset. When a sense pin is taken more than 65mV below supply, the MOSFET gate for that channel is driven low and the corresponding (See Datasheet)", 14 GATE3 (hiz) "The gate pins drive the power MOSFET gates. When an input is ON, the corresponding gate pin is pumped approximately 12V above the supply. These pins have a relatively high impedance when above the rail (theequivalent of a (See Datasheet)", 15 SENSE 3 (in) "Each sense pin connects to the input of asupply-referenced comparator with a 65mV nominal offset. When a sense pin is taken more than 65mV below supply, the MOSFET gate for that channel is driven low and the corresponding (See Datasheet)", 16 GATE2 (hiz) "The gate pins drive the power MOSFET gates. When an input is ON, the corresponding gate pin is pumped approximately 12V above the supply. These pins have a relatively high impedance when above the rail (theequivalent of a (See Datasheet)", 17 SENSE 2 (in) "Each sense pin connects to the input of asupply-referenced comparator with a 65mV nominal offset. When a sense pin is taken more than 65mV below supply, the MOSFET gate for that channel is driven low and the corresponding (See Datasheet)", 18 GATE1 (hiz) "The gate pins drive the power MOSFET gates. When an input is ON, the corresponding gate pin is pumped approximately 12V above the supply. These pins have a relatively high impedance when above the rail (theequivalent of a (See Datasheet)", 19 SENSE 1 (in) "Each sense pin connects to the input of asupply-referenced comparator with a 65mV nominal offset. When a sense pin is taken more than 65mV below supply, the MOSFET gate for that channel is driven low and the corresponding (See Datasheet)", 20 V+ (power) "The two supply pins are internally connected and must also be externally connected. In addition to providing the operating current for the LT1161, the supply pins also serve as the Kelvin connection for the current sense (See Datasheet)"